# Altium schematic symbol library DIODE ZENER.SchLib: 1 symbol
Pins are listed as number, name and electrical type; pins without a type are passive.

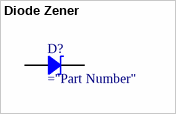
[diagram p0: symbol Diode Zener]

## Diode Zener
designator D?
Zener Diode
pins: 1, 2